# EAGLE library part LORA_RFM95W-915S2_MODULE (library CDC Library v130)
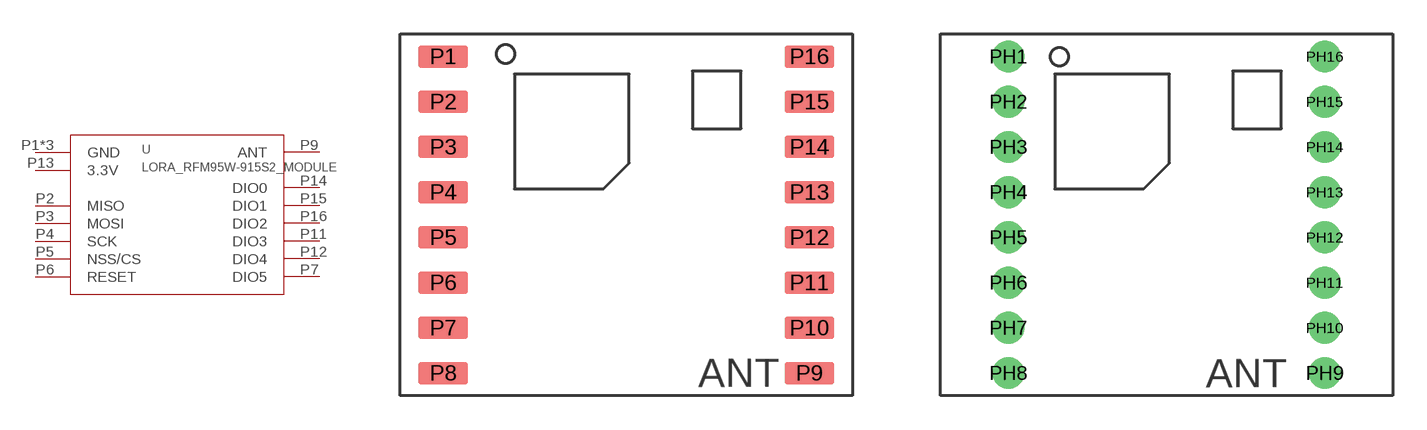
[diagram p2: symbol with the pads of LORA_RFM95W-915S2_16MODULE; footprints LORA_RFM95W-915S2_16MODULE, LORA_RFM95W-915S2_16STANDOFFMODULE]

Designator prefix -

## LORA_RFM95W-915S2_MODULE  [LORA_RFM95W-915S2_16MODULE]
P1  GND
P2  MISO
P3  MOSI
P4  SCK
P5  NSS/CS
P6  RESET
P7  DIO5
P8  GND
P9  ANT
P10  GND
P11  DIO3
P12  DIO4
P13  3.3V
P14  DIO0
P15  DIO1
P16  DIO2

## LORA_RFM95W-915S2_MODULETHT  [LORA_RFM95W-915S2_16STANDOFFMODULE]
PH1  GND
PH2  MISO
PH3  MOSI
PH4  SCK
PH5  NSS/CS
PH6  RESET
PH7  DIO5
PH8  GND
PH9  ANT
PH10  GND
PH11  DIO3
PH12  DIO4
PH13  3.3V
PH14  DIO0
PH15  DIO1
PH16  DIO2

## Footprint LORA_RFM95W-915S2_16MODULE (pad centres in mm)
smd 2.2 x 1: P1 -8.1,7; P2 -8.1,5; P3 -8.1,3; P4 -8.1,1; P5 -8.1,-1; P6 -8.1,-3; P7 -8.1,-5; P8 -8.1,-7; P9 8.1,-7; P10 8.1,-5; P11 8.1,-3; P12 8.1,-1; P13 8.1,1; P14 8.1,3; P15 8.1,5; P16 8.1,7

## Footprint LORA_RFM95W-915S2_16STANDOFFMODULE (pad centres in mm)
drill 0.9: PH1 -7,7; PH2 -7,5; PH3 -7,3; PH4 -7,1; PH5 -7,-1; PH6 -7,-3; PH7 -7,-5; PH8 -7,-7; PH9 7,-7; PH10 7,-5; PH11 7,-3; PH12 7,-1; PH13 7,1; PH14 7,3; PH15 7,5; PH16 7,7